# EAGLE library part MC100EP40DTG (library on-semiconductor-01)
Differential Phase-Frequency Detector
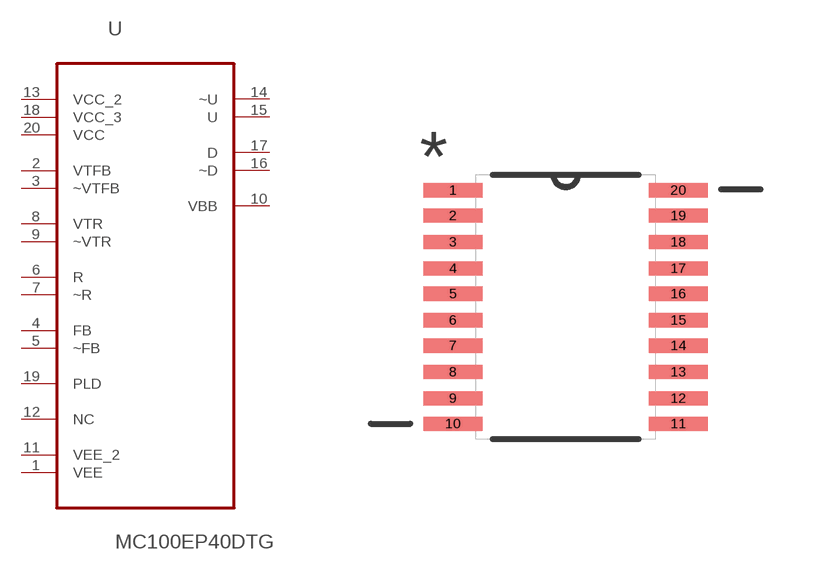
[diagram p118: symbol with the pads of SOP65P640X120-20N; footprint SOP65P640X120-20N]

Designator prefix U

## MC100EP40DTG (MPN: MC100EP40DTG; OC_FARNELL: 1611370; OC_NEWARK: 42K0429; PACKAGE: TSSOP-20; SUPPLIER: ON SEMICONDUCTOR)  [SOP65P640X120-20N]
1  VEE  pwr
2  VTFB  in
3  ~VTFB  in
4  FB  in
5  ~FB  in
6  R  in
7  ~R  in
8  VTR  in
9  ~VTR  in
10  VBB  out
11  VEE_2  pwr
12  NC  nc
13  VCC_2  pwr
14  ~U  out
15  U  out
16  ~D  out
17  D  out
18  VCC_3  pwr
19  PLD  in
20  VCC  pwr

## Footprint SOP65P640X120-20N (pad centres in mm)
smd 1.473 x 0.356: 1 -2.819,2.921; 2 -2.819,2.286; 3 -2.819,1.626; 4 -2.819,0.965; 5 -2.819,0.33; 6 -2.819,-0.33; 7 -2.819,-0.965; 8 -2.819,-1.626; 9 -2.819,-2.286; 10 -2.819,-2.921; 11 2.819,-2.921; 12 2.819,-2.286; 13 2.819,-1.626; 14 2.819,-0.965; 15 2.819,-0.33; 16 2.819,0.33; 17 2.819,0.965; 18 2.819,1.626; 19 2.819,2.286; 20 2.819,2.921